# Altium footprint library ComponentsPCB.PcbLib: 28 footprints (part 2 of 2)
Each footprint in its own frame and in the unit in brackets; x right, y up, seen from the top. Pads: shape width x height; smd on the part's side, far side on the other; paste and mask are expansions set on the pad; w line width, h text height; cw(c..) or ccw(c..) is an arc to the next point about the centre after c.
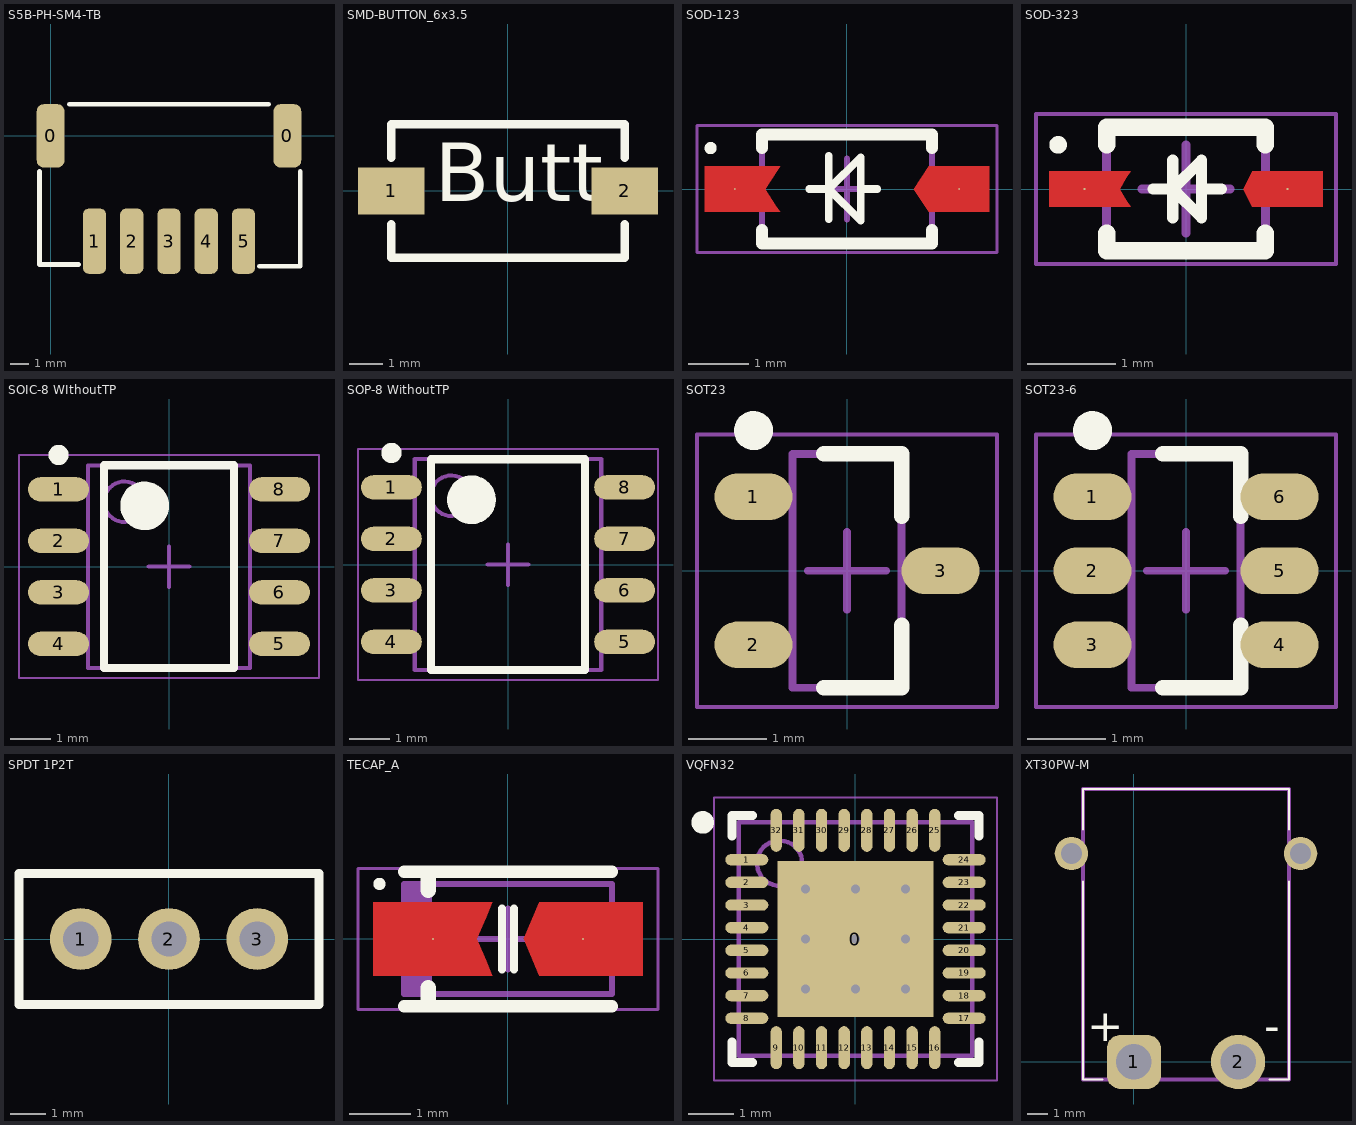
[diagram p1: the footprints below, top view; thin cyan lines are the x and y axes]

## S5B-PH-SM4-TB [mm]
pads (7):
  rrect50% 1.5x3.4 smd: 0(0,0) 0(12.7,0)
  rrect50% 1.25x3.5 smd: 1(2.35,-5.65) 2(4.35,-5.65) 3(6.35,-5.65) 4(8.35,-5.65) 5(10.35,-5.65)
Top Overlay:
  lines w0.254: -0.6,-1.9 -0.6,-6.9 1.5,-6.9 ; 1,1.7 11.7,1.7 ; 11.2,-7 13.4,-7 13.4,-1.9
3D body "JST-S5B-PH-SM4-TB.STEP": height 5.61, standoff 0, extent -0.6,-6.938 13.3,1.675

## SMD-BUTTON_6x3.5 [mm]
pads (2):
  rect 2x1.4 smd: 1(-3.5,0) 2(3.5,0)
Top Overlay:
  lines w0.254: -3.5,-1 -3.5,-2 3.5,-2 3.5,-1 ; -3.5,1 -3.5,2 3.5,2 3.5,1
  text "Butt" at -2.197,-0.88 h3
3D body "G73 button.STEP": height 2.5, standoff 0, extent -4,-1.75 4,1.75

## SOD-123 [mil] "SOD-123, 2-Leads, Body 1,60x3,75mm, IPC Medium Density"
height 55.12
pads (2):
  round 1 smd: 1(-72.83,0) 2(72.83,0)
Top Layer:
  region: -53.15,14.76 -43.31,14.76 -45.28,11.81 -53.15,0 -46.26,-10.83 -43.31,-14.76 -53.15,-14.76
  region: 53.15,-14.76 43.31,0 53.15,14.76
  region: -92.52,-14.76 -53.15,-14.76 -53.15,14.76 -92.52,14.76
  region: 53.15,-14.76 92.52,-14.76 92.52,14.76 53.15,14.76
Top Overlay:
  circle w3.94: c-88.58,26.57 r1.97
  lines w5: -24.61,0 -11.81,0 ; -11.81,-19.68 -11.81,21.65 ; 8.86,0 19.68,0 ; -11.81,0 8.86,-20.67 8.86,20.67 -11.81,0
  lines w7.87: -55.12,-26.57 -55.12,-35.43 55.12,-35.43 55.12,-26.57 ; -55.12,26.57 -55.12,35.43 55.12,35.43 55.12,26.57
Mechanical 13:
  lines w3.94: -55.12,-35.43 -55.12,35.43 55.12,35.43 55.12,-35.43 -55.12,-35.43
Mechanical 15:
  lines w1.97: -97.44,-41.34 -97.44,41.34 97.44,41.34 97.44,-41.34 -97.44,-41.34
  lines w3.94: -19.68,0 19.69,0 ; 0,-19.68 0,19.68
3D body "User Library-SOD-123_DiodesInc.step": height 56.89, standoff -0.2, extent -75.79,-33.46 75.79,33.46

## SOD-323 [mil]
height 47.24
pads (2):
  round 1 smd: 1(-45.28,0) 2(45.28,0)
Top Layer:
  region: 29.53,7.87 25.59,0 29.53,-7.87
  region: -29.53,7.87 -24.61,7.87 -26.57,4.92 -29.53,0 -26.57,-4.92 -24.61,-7.87 -29.53,-7.87
  region: 29.53,-7.87 61.02,-7.87 61.02,7.87 29.53,7.87
  region: -61.02,-7.87 -29.53,-7.87 -29.53,7.87 -61.02,7.87
Top Overlay:
  circle w3.94: c-57.09,19.68 r1.97
  lines w5: -14.76,0 -5.91,0 ; -5.91,-12.8 -5.91,0 ; -5.91,12.8 -5.91,0 ; 6.89,0 15.75,0 ; -5.91,0 6.89,-12.8 6.89,12.8 -5.91,0
  lines w7.87: -35.43,-19.68 -35.43,-27.56 35.43,-27.56 35.43,-19.68 ; -35.43,19.68 -35.43,27.56 35.43,27.56 35.43,19.68
Mechanical 13:
  lines w3.94: -35.43,-27.56 35.43,-27.56 35.43,27.56 -35.43,27.56 -35.43,-27.56
Mechanical 15:
  lines w1.97: -66.93,-33.46 66.93,-33.46 66.93,33.46 -66.93,33.46 -66.93,-33.46
  lines w3.94: -19.68,0 19.68,0 ; 0,-19.68 0,19.68
3D body "SOD-323.STEP": height 46.06, standoff 0.79, extent -53.15,-28.48 53.15,28.48

## SOIC-8 WIthoutTP [mm] "SOIC, 8-Leads, Body 4,90x3,90mm, Pitch 1,27mm, IPC Medium Density"
height 1.75
pads (8):
  oval 1.5x0.6 smd: 1(-2.725,1.905) 2(-2.725,0.635) 3(-2.725,-0.635) 4(-2.725,-1.905) 5(2.725,-1.905) 6(2.725,-0.635) 7(2.725,0.635) 8(2.725,1.905)
Top Overlay:
  circle w0.6: c-0.6,1.5 r0.3
  circle w0.25: c-2.725,2.755 r0.125
  lines w0.2: -1.6,-2.5 1.6,-2.5 1.6,2.5 -1.6,2.5 -1.6,-2.5
Mechanical 13:
  circle w0.1: c-1.1,1.6 r0.5
  lines w0.1: -2,-2.5 2,-2.5 2,2.5 -2,2.5 -2,-2.5
Mechanical 15:
  lines w0.05: -3.7,-2.75 3.7,-2.75 3.7,2.75 -3.7,2.75 -3.7,-2.75
  lines w0.1: -0.5,0 0.5,0 ; 0,-0.5 0,0.5
3D body "User Library-SOIC-8-1.SLDPRT": height 1.75, standoff 0, extent -2.958,-2.439 3.042,2.461

## SOP-8 WithoutTP [mm]
height 1.75
pads (8):
  oval 1.5x0.6 smd: 1(-2.875,1.905) 2(-2.875,0.635) 3(-2.875,-0.635) 4(-2.875,-1.905) 5(2.875,-1.905) 6(2.875,-0.635) 7(2.875,0.635) 8(2.875,1.905)
Top Overlay:
  circle w0.6: c-0.9,1.6 r0.3
  circle w0.25: c-2.875,2.755 r0.125
  lines w0.2: -1.9,-2.6 1.9,-2.6 1.9,2.6 -1.9,2.6 -1.9,-2.6
Mechanical 13:
  circle w0.1: c-1.4,1.7 r0.5
  lines w0.1: -2.3,-2.6 2.3,-2.6 2.3,2.6 -2.3,2.6 -2.3,-2.6
Mechanical 15:
  lines w0.05: -3.7,-2.85 3.7,-2.85 3.7,2.85 -3.7,2.85 -3.7,-2.85
  lines w0.1: -0.5,0 0.5,0 ; 0,-0.5 0,0.5
3D body "User Library-sop8_model.STEP": height 1.55, standoff -0.01, extent -3.066,-2.461 2.914,2.439

## SOT23 [mm] "SOT23, 3-Leads, Body 2,90x2,45mm, Pitch 0,95mm, IPC Medium Density"
height 1.1
pads (3):
  oval 1x0.6 smd: 1(-1.2,0.95) 2(-1.2,-0.95) 3(1.2,0)
Top Overlay:
  circle w0.25: c-1.2,1.8 r0.125
  lines w0.2: -0.3,-1.5 0.7,-1.5 0.7,-0.7 ; -0.3,1.5 0.7,1.5 0.7,0.7
Mechanical 13:
  lines w0.1: -0.7,-1.5 -0.7,1.5 0.7,1.5 0.7,-1.5 -0.7,-1.5
Mechanical 15:
  lines w0.05: -1.925,-1.75 -1.925,1.75 1.925,1.75 1.925,-1.75 -1.925,-1.75
  lines w0.1: -0.5,0 0.5,0 ; 0,-0.5 0,0.5
3D body "SOT23-3.step": height 1.1, standoff 0, extent -1.25,-1.499 1.25,1.499

## SOT23-6 [mm] "SOT23, 6-Leads, Body 2,90x2,45mm, Pitch 0,95mm, IPC Medium Density"
height 1.1
pads (6):
  oval 1x0.6 smd: 1(-1.2,0.95) 2(-1.2,0) 3(-1.2,-0.95) 4(1.2,-0.95) 5(1.2,0) 6(1.2,0.95)
Top Overlay:
  circle w0.25: c-1.2,1.8 r0.125
  lines w0.2: -0.3,-1.5 0.7,-1.5 0.7,-0.7 ; -0.3,1.5 0.7,1.5 0.7,0.7
Mechanical 13:
  lines w0.1: -0.7,-1.5 0.7,-1.5 0.7,1.5 -0.7,1.5 -0.7,-1.5
Mechanical 15:
  lines w0.05: -1.925,-1.75 1.925,-1.75 1.925,1.75 -1.925,1.75 -1.925,-1.75
  lines w0.1: -0.5,0 0.5,0 ; 0,-0.5 0,0.5
3D body "sot-23-6.stp": height 1.15, standoff 0.04, extent -1.435,-1.461 1.41,1.46

## SPDT 1P2T [mm]
pads (3):
  round 1.75 hole 1: 1(-2.5,0) 2(0,0) 3(2.5,0)
Top Overlay:
  lines w0.254: -4.25,-1.85 4.25,-1.85 4.25,1.85 -4.25,1.85 -4.25,-1.85
3D body "Selector Switch - SS12D00.stp": height 6.98, standoff -2.52, extent -4.293,-1.85 4.293,1.858

## TECAP_A [mil] "Molded Capacitor, 2-Leads, Body 3,20x1,60mm, IPC Medium Density"
height 70.87
pads (2):
  round 1 smd: 1(-48.23,0) 2(48.23,0)
Top Layer:
  region: -20,23.62 -10.15,23.62 -14,14 -20,0 -14,-14 -10.15,-23.62 -20,-23.62
  region: 20,23.62 10,0 20,-23.62
  region: 20,-23.62 86.61,-23.62 86.61,23.62 20,23.62
  region: -86.61,-23.62 -20,-23.62 -20,23.62 -86.61,23.62
Top Overlay:
  circle w3.94: c-82.68,35.43 r1.97
  lines w5: -3.94,-19.69 -3.94,19.68 ; 3.94,-19.69 3.94,19.68
  lines w7.87: -66.93,-43.31 66.93,-43.31 ; -66.93,43.31 66.93,43.31
  lines w10: -51.18,-39.37 -51.18,-31.5 ; -51.18,31.5 -51.18,39.37
Mechanical 13:
  rectangle: -66.93,-35.43 -48.93,35.43
  lines w3.94: -66.93,-35.43 66.93,-35.43 66.93,35.43 -66.93,35.43 -66.93,-35.43
Mechanical 15:
  lines w1.97: -96.46,-45.28 96.46,-45.28 96.46,45.28 -96.46,45.28 -96.46,-45.28
  lines w3.94: -19.68,0 19.69,0 ; 0,-19.69 0,19.68
3D body "Tantalum Capacitor C3216 1206 CAP TAN.stp": height 70.89, standoff -0.02, extent -66.93,-35.43 66.93,35.43

## VQFN32 [mm] "QFN, 32-Leads, Body 5,00x5,00mm, Pitch 0,50mm, Thermal Pad 3,45x3,45mm, IPC Medium Density"
height 1
pads (33):
  rect 3.45x3.45 smd: 0(0,0)
  oval 0.95x0.25 smd: 1(-2.4,1.75) 2(-2.4,1.25) 3(-2.4,0.75) 4(-2.4,0.25) 5(-2.4,-0.25) 6(-2.4,-0.75) 7(-2.4,-1.25) 8(-2.4,-1.75) 17(2.4,-1.75) 18(2.4,-1.25) 19(2.4,-0.75) 20(2.4,-0.25) 21(2.4,0.25) 22(2.4,0.75) 23(2.4,1.25) 24(2.4,1.75)
  oval 0.25x0.95 smd: 9(-1.75,-2.4) 10(-1.25,-2.4) 11(-0.75,-2.4) 12(-0.25,-2.4) 13(0.25,-2.4) 14(0.75,-2.4) 15(1.25,-2.4) 16(1.75,-2.4) 25(1.75,2.4) 26(1.25,2.4) 27(0.75,2.4) 28(0.25,2.4) 29(-0.25,2.4) 30(-0.75,2.4) 31(-1.25,2.4) 32(-1.75,2.4)
via 1.1,-1.1 diameter 0.5 hole 0.2
via 0,-1.1 diameter 0.5 hole 0.2
via -1.1,-1.1 diameter 0.5 hole 0.2
via 1.1,0 diameter 0.5 hole 0.2
via 0,0 diameter 0.5 hole 0.2
via -1.1,0 diameter 0.5 hole 0.2
via 1.1,1.1 diameter 0.5 hole 0.2
via 0,1.1 diameter 0.5 hole 0.2
via -1.1,1.1 diameter 0.5 hole 0.2
Top Overlay:
  circle w0.25: c-3.375,2.575 r0.125
  lines w0.2: -2.725,-2.275 -2.725,-2.725 -2.275,-2.725 ; -2.725,2.275 -2.725,2.725 -2.275,2.725 ; 2.275,-2.725 2.725,-2.725 2.725,-2.275 ; 2.275,2.725 2.725,2.725 2.725,2.275
Mechanical 13:
  circle w0.1: c-1.675,1.675 r0.5
  lines w0.1: -2.575,-2.575 2.575,-2.575 2.575,2.575 -2.575,2.575 -2.575,-2.575
Mechanical 15:
  lines w0.05: -3.125,-3.125 3.125,-3.125 3.125,3.125 -3.125,3.125 -3.125,-3.125
  lines w0.1: -0.5,0 0.5,0 ; 0,-0.5 0,0.5
3D body "VQFN32.STEP": height 1, standoff -0.01, extent -2.51,-2.51 2.51,2.51

## XT30PW-M [mm]
pads (4):
  rrect50% 2.6x2.6 hole 1.7: 1(0,0)
  round 2.6 hole 1.7: 2(5,0)
  round 1.6 hole 1: ""(-3,10) ""(8,10)
Top Overlay:
  lines w0.1: -2.45,8.649 -2.45,-0.85 -1.5,-0.85 ; -2.45,11.149 -2.45,13.099 7.45,13.099 7.45,11.149 ; 6.5,-0.85 7.45,-0.85 7.45,8.649
  text "-" at 6.254,0.992 h1.52
  text "+" at -2.246,1 h1.52
Mechanical 15:
  lines w0.2: -2.45,-0.85 -2.45,13.099 7.45,13.099 7.45,-0.85 -2.45,-0.85
3D body "XT30PW-M.stp": height 5.1, standoff -2.4, extent -4.15,-0.85 9.15,13.1